# Altium schematic symbol library 87227-6.SchLib: 1 symbol
Pins are listed as number, name and electrical type; pins without a type are passive.

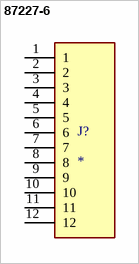
[diagram p0: symbol 87227-6]

## 87227-6
designator J?
Straight PCB Header, 12-Way 2 Row, 2.54mm Pitch, 3A, AMPMODU Mod II Series | TE Connectivity 87227-6; Product_Type: Connector; Number_of_Positions: 12; Centerline_Pitch: 2.54 mm[.1 in]; SnapEDA_Link: https://www.snapeda.com/parts/87227-6/TE+Connectivity+AMP+Connectors/view-part/?ref=snap; Package: None; Value: *; MF: TE Connectivity; MP: 87227-6; EU_RoHS_Compliance: Compliant; Check_prices: https://www.snapeda.com/parts/87227-6/TE+Connectivity+AMP+Connectors/view-part/?ref=eda
footprint TE_87227-6
pins: 1, 2, 3, 4, 5, 6, 7, 8, 9, 10, 11, 12